# Altium schematic symbol library SCH - CONNECTORS - TE 3-794677-6.Schlib: 1 symbol
Pins are listed as number, name and electrical type; pins without a type are passive.

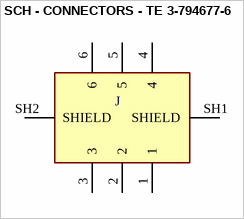
[diagram p0: symbol SCH - CONNECTORS - TE 3-794677-6]

## SCH - CONNECTORS - TE 3-794677-6
designator J
footprint TE_3-794677-6_BOSCH_PINOUT (custom pinout for BOSCH)
pins: 1, 2, 3, 4, 5, 6, SH1 SHIELD, SH2 SHIELD